# Altium schematic symbol library CX1000AM原理图封装.SchLib: 1 symbol
Pins are listed as number, name and electrical type; pins without a type are passive.

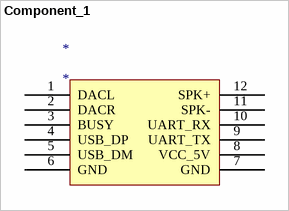
[diagram p0: symbol Component_1]

## Component_1
designator *
pins: 1 DACL, 2 DACR, 3 BUSY, 4 USB_DP, 5 USB_DM, 6 GND, 7 GND, 8 VCC_5V, 9 UART_TX, 10 UART_RX, 11 SPK-, 12 SPK+